# EAGLE library part CY7C1019B (library memory-cypress)
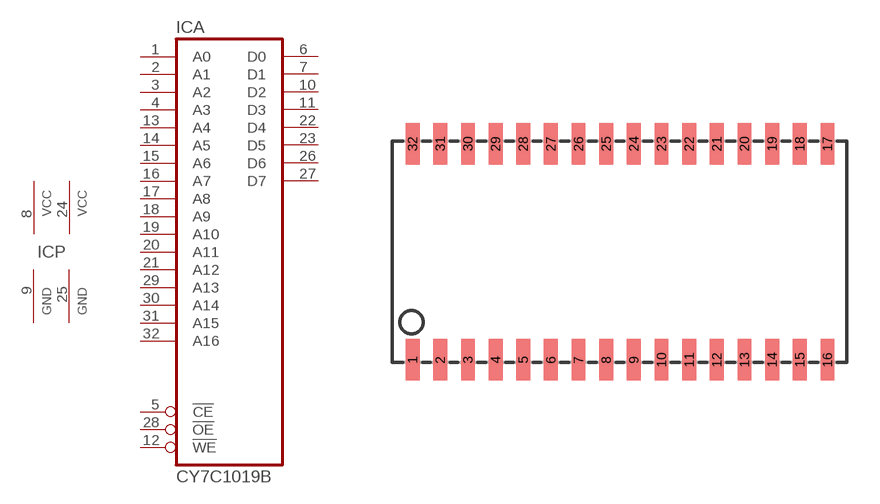
[diagram p0: symbol with the pads of SOJ32/4; footprint SOJ32/4]

Designator prefix IC; gates A=1MBIT_128KX8 P=2PWR2GND

## CY7C1019B  [SOJ32/4]
1  A:A0  in
2  A:A1  in
3  A:A2  in
4  A:A3  in
5  A:!CE  in
6  A:D0
7  A:D1
8  P:VCC  pwr
9  P:GND  pwr
10  A:D2
11  A:D3
12  A:!WE  in
13  A:A4  in
14  A:A5  in
15  A:A6  in
16  A:A7  in
17  A:A8  in
18  A:A9  in
19  A:A10  in
20  A:A11  in
21  A:A12  in
22  A:D4
23  A:D5
24  P:VCC  pwr
25  P:GND  pwr
26  A:D6
27  A:D7
28  A:!OE  in
29  A:A13  in
30  A:A14  in
31  A:A15  in
32  A:A16  in

## Footprint SOJ32/4 (pad centres in mm)
smd 0.635 x 1.905: 1 -8.89,-4.902; 2 -7.62,-4.902; 3 -6.35,-4.902; 4 -5.08,-4.902; 5 -3.81,-4.902; 6 -2.54,-4.902; 7 -1.27,-4.902; 8 0,-4.902; 9 1.27,-4.902; 10 2.54,-4.902; 11 3.81,-4.902; 12 5.08,-4.902; 13 6.35,-4.902; 14 7.62,-4.902; 15 8.89,-4.902; 16 10.16,-4.902; 17 10.16,5.029; 18 8.89,5.029; 19 7.62,5.029; 20 6.35,5.029; 21 5.08,5.029; 22 3.81,5.029; 23 2.54,5.029; 24 1.27,5.029; 25 0,5.029; 26 -1.27,5.029; 27 -2.54,5.029; 28 -3.81,5.029; 29 -5.08,5.029; 30 -6.35,5.029; 31 -7.62,5.029; 32 -8.89,5.029